# EAGLE library part CYUSB301* (library Cypress)
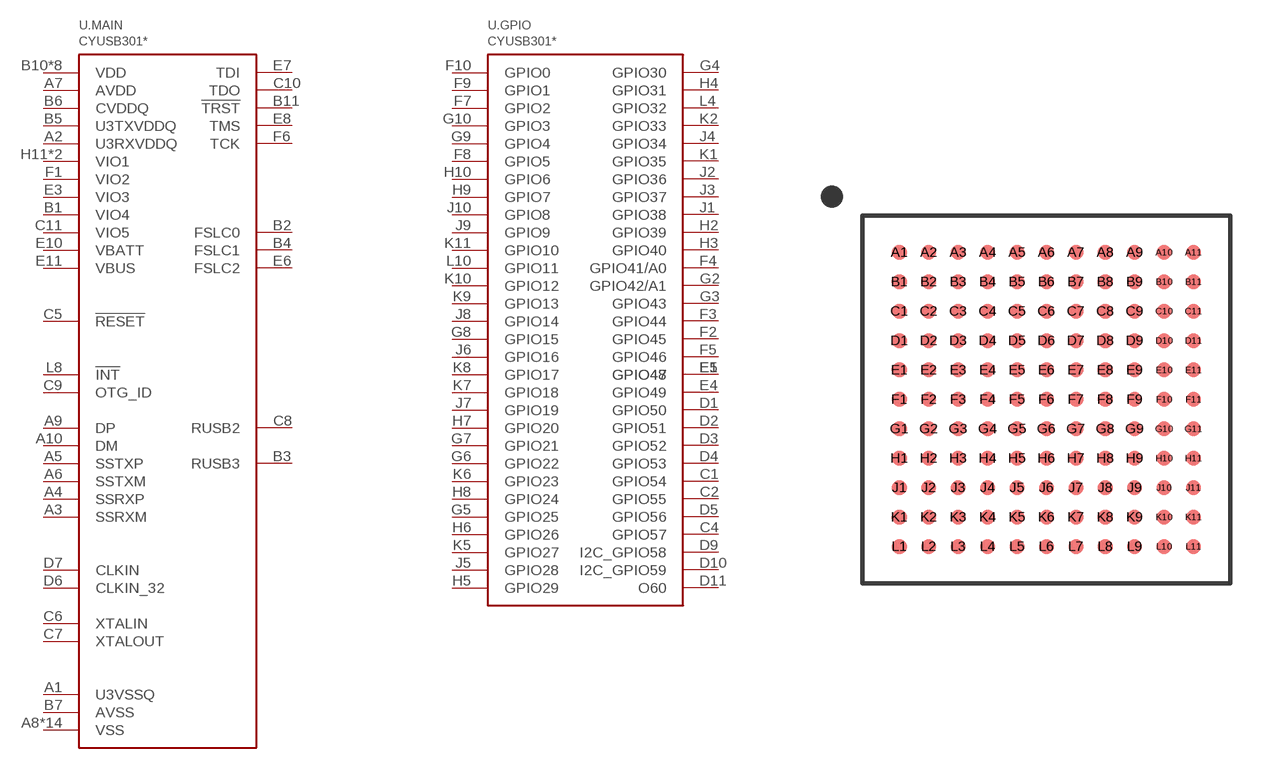
[diagram p0: symbol with the pads of BGA121; footprint BGA121]

Designator prefix U; gates .MAIN=CYUSB301X_PWR_USB .GPIO=CYUSB301X_IO

## CYUSB3012, CYUSB3013, CYUSB3014  [BGA121]
A1  .MAIN:U3VSSQ
A2  .MAIN:U3RXVDDQ
A3  .MAIN:SSRXM
A4  .MAIN:SSRXP
A5  .MAIN:SSTXP
A6  .MAIN:SSTXM
A7  .MAIN:AVDD
A8  .MAIN:VSS
A9  .MAIN:DP
A10  .MAIN:DM
B1  .MAIN:VIO4
B2  .MAIN:FSLC0
B3  .MAIN:RUSB3
B4  .MAIN:FSLC1
B5  .MAIN:U3TXVDDQ
B6  .MAIN:CVDDQ
B7  .MAIN:AVSS
B8  .MAIN:VSS
B9  .MAIN:VSS
B10  .MAIN:VDD
B11  .MAIN:!TRST
C1  .GPIO:GPIO54
C2  .GPIO:GPIO55
C3  .MAIN:VDD
C4  .GPIO:GPIO57
C5  .MAIN:!RESET
C6  .MAIN:XTALIN
C7  .MAIN:XTALOUT
C8  .MAIN:RUSB2
C9  .MAIN:OTG_ID
C10  .MAIN:TDO
C11  .MAIN:VIO5
D1  .GPIO:GPIO50
D2  .GPIO:GPIO51
D3  .GPIO:GPIO52
D4  .GPIO:GPIO53
D5  .GPIO:GPIO56
D6  .MAIN:CLKIN_32
D7  .MAIN:CLKIN
D8  .MAIN:VSS
D9  .GPIO:I2C_GPIO58
D10  .GPIO:I2C_GPIO59
D11  .GPIO:O60
E1  .GPIO:GPIO47
E2  .MAIN:VSS
E3  .MAIN:VIO3
E4  .GPIO:GPIO49
E5  .GPIO:GPIO48
E6  .MAIN:FSLC2
E7  .MAIN:TDI
E8  .MAIN:TMS
E9  .MAIN:VDD
E10  .MAIN:VBATT
E11  .MAIN:VBUS
F1  .MAIN:VIO2
F2  .GPIO:GPIO45
F3  .GPIO:GPIO44
F4  .GPIO:GPIO41/A0
F5  .GPIO:GPIO46
F6  .MAIN:TCK
F7  .GPIO:GPIO2
F8  .GPIO:GPIO5
F9  .GPIO:GPIO1
F10  .GPIO:GPIO0
F11  .MAIN:VDD
G1  .MAIN:VSS
G2  .GPIO:GPIO42/A1
G3  .GPIO:GPIO43
G4  .GPIO:GPIO30
G5  .GPIO:GPIO25
G6  .GPIO:GPIO22
G7  .GPIO:GPIO21
G8  .GPIO:GPIO15
G9  .GPIO:GPIO4
G10  .GPIO:GPIO3
G11  .MAIN:VSS
H1  .MAIN:VDD
H2  .GPIO:GPIO39
H3  .GPIO:GPIO40
H4  .GPIO:GPIO31
H5  .GPIO:GPIO29
H6  .GPIO:GPIO26
H7  .GPIO:GPIO20
H8  .GPIO:GPIO24
H9  .GPIO:GPIO7
H10  .GPIO:GPIO6
H11  .MAIN:VIO1
J1  .GPIO:GPIO38
J2  .GPIO:GPIO36
J3  .GPIO:GPIO37
J4  .GPIO:GPIO34
J5  .GPIO:GPIO28
J6  .GPIO:GPIO16
J7  .GPIO:GPIO19
J8  .GPIO:GPIO14
J9  .GPIO:GPIO9
J10  .GPIO:GPIO8
J11  .MAIN:VDD
K1  .GPIO:GPIO35
K2  .GPIO:GPIO33
K3  .MAIN:VSS
K4  .MAIN:VSS
K5  .GPIO:GPIO27
K6  .GPIO:GPIO23
K7  .GPIO:GPIO18
K8  .GPIO:GPIO17
K9  .GPIO:GPIO13
K10  .GPIO:GPIO12
K11  .GPIO:GPIO10
L1  .MAIN:VSS
L2  .MAIN:VSS
L3  .MAIN:VSS
L4  .GPIO:GPIO32
L5  .MAIN:VDD
L6  .MAIN:VSS
L7  .MAIN:VDD
L8  .MAIN:!INT
L9  .MAIN:VIO1
L10  .GPIO:GPIO11
L11  .MAIN:VSS

## Footprint BGA121 (pad centres in mm)
smd 0.406 x 0.406: A1 -4,4; A2 -3.2,4; A3 -2.4,4; A4 -1.6,4; A5 -0.8,4; A6 0,4; A7 0.8,4; A8 1.6,4; A9 2.4,4; A10 3.2,4; A11 4,4; B1 -4,3.2; B2 -3.2,3.2; B3 -2.4,3.2; B4 -1.6,3.2; B5 -0.8,3.2; B6 0,3.2; B7 0.8,3.2; B8 1.6,3.2; B9 2.4,3.2; B10 3.2,3.2; B11 4,3.2; C1 -4,2.4; C2 -3.2,2.4; C3 -2.4,2.4; C4 -1.6,2.4; C5 -0.8,2.4; C6 0,2.4; C7 0.8,2.4; C8 1.6,2.4; C9 2.4,2.4; C10 3.2,2.4; C11 4,2.4; D1 -4,1.6; D2 -3.2,1.6; D3 -2.4,1.6; D4 -1.6,1.6; D5 -0.8,1.6; D6 0,1.6; D7 0.8,1.6; D8 1.6,1.6; D9 2.4,1.6; D10 3.2,1.6; D11 4,1.6; E1 -4,0.8; E2 -3.2,0.8; E3 -2.4,0.8; E4 -1.6,0.8; E5 -0.8,0.8; E6 0,0.8; E7 0.8,0.8; E8 1.6,0.8; E9 2.4,0.8; E10 3.2,0.8; E11 4,0.8; F1 -4,0; F2 -3.2,0; F3 -2.4,0; F4 -1.6,0; F5 -0.8,0; F6 0,0; F7 0.8,0; F8 1.6,0; F9 2.4,0; F10 3.2,0; F11 4,0; G1 -4,-0.8; G2 -3.2,-0.8; G3 -2.4,-0.8; G4 -1.6,-0.8; G5 -0.8,-0.8; G6 0,-0.8; G7 0.8,-0.8; G8 1.6,-0.8; G9 2.4,-0.8; G10 3.2,-0.8; G11 4,-0.8; H1 -4,-1.6; H2 -3.2,-1.6; H3 -2.4,-1.6; H4 -1.6,-1.6; H5 -0.8,-1.6; H6 0,-1.6; H7 0.8,-1.6; H8 1.6,-1.6; H9 2.4,-1.6; H10 3.2,-1.6; H11 4,-1.6; J1 -4,-2.4; J2 -3.2,-2.4; J3 -2.4,-2.4; J4 -1.6,-2.4; J5 -0.8,-2.4; J6 0,-2.4; J7 0.8,-2.4; J8 1.6,-2.4; J9 2.4,-2.4; J10 3.2,-2.4; J11 4,-2.4; K1 -4,-3.2; K2 -3.2,-3.2; K3 -2.4,-3.2; K4 -1.6,-3.2; K5 -0.8,-3.2; K6 0,-3.2; K7 0.8,-3.2; K8 1.6,-3.2; K9 2.4,-3.2; K10 3.2,-3.2; K11 4,-3.2; L1 -4,-4; L2 -3.2,-4; L3 -2.4,-4; L4 -1.6,-4; L5 -0.8,-4; L6 0,-4; L7 0.8,-4; L8 1.6,-4; L9 2.4,-4; L10 3.2,-4; L11 4,-4